# Altium schematic symbol library BJT.SchLib: 3 symbols
Pins are listed as number, name and electrical type; pins without a type are passive.

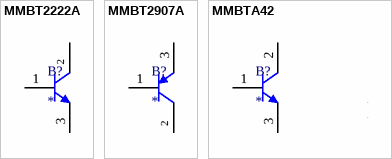
[diagram p0: symbols MMBT2222A to MMBTA42]

## MMBT2222A
designator B?
TRANS NPN, 40V, 600MA, SOT23-3; DC Current Gain: 35-300; Gain Bandwidth Product fT: 250MHz; Power Dissipation: 250mW; Supply 1 Name: Digikey; Supply 1 SN: 2796-MMBT2222ATR-ND; Supply 2 Name: Mouser; Supply 2 SN: 637-MMBT2222A; Supply 3 Name: thegioiic; Current - Collector: 600mA; Package: SOT-23; Supply 1 URL: https://www.digikey.com/en/products/detail/diotec-semiconductor/MMBT2222A/13163394; Supply 2 URL: https://www.mouser.vn/ProductDetail/Diotec-Semiconductor/MMBT2222A?qs=OlC7AqGiEDl9N1c3%252BL%2F%252Brw%3D%3D; Supply 3 URL: https://www.thegioiic.com/mmbt2222a-transistor-npn-40v-0-6a-3-chan-sot-23; Transistor Type: NPN; Voltage - Collector Emitter Breakdown: 40V; Supply 3 SN: *
footprint SOT23
pins: 1 B, 2 C, 3 E

## MMBT2907A
designator B?
TRANS PNP 60V 0.6A SOT23-3; Current - Collector: 600mA; DC Current Gain: 50-300; Gain Bandwidth Product fT: 200MHz; Power Dissipation: 250mW; Supply 1 Name: Digikey; Supply 1 SN: 2721-MMBT2907A-ND; Supply 2 Name: Mouser; Supply 2 SN: 637-MMBT2907A; Supply 3 Name: thegioiic; Voltage - Collector Emitter Breakdown: 60V; Package: SOT-23; Supply 1 URL: https://www.digikey.com/en/products/detail/dcomponents/MMBT2907A/13574996; Supply 2 URL: https://www.mouser.vn/ProductDetail/Diotec-Semiconductor/MMBT2907A?qs=OlC7AqGiEDk%2F%2FX9t05LXdg%3D%3D; Transistor Type: PNP; Supply 3 SN: *; Supply 3 URL: https://www.thegioiic.com/mmbt2907a-transistor-pnp-60v-0-6a-3-chan-sot-23
footprint SOT23
pins: 1 B, 2 C, 3 E

## MMBTA42
designator B?
TRANS NPN, 300V, 0.5A, SOT23-3; Current - Collector: 500mA; DC Current Gain: 80-200; Power Dissipation: 250mW; Gain Bandwidth Product fT: 50MHz; Supply 1 Name: Digikey; Supply 1 SN: 2796-MMBTA42TR-ND; Supply 2 Name: Mouser; Supply 2 SN: 637-MMBTA42; Supply 3 Name: thegioiic; Voltage - Collector Emitter Breakdown: 300V; Transistor Type: NPN; Package: SOT-23; Supply 1 URL: https://www.digikey.com/en/products/detail/diotec-semiconductor/MMBTA42/13163233; Supply 2 URL: https://www.mouser.vn/ProductDetail/Diotec-Semiconductor/MMBTA42?qs=OlC7AqGiEDkTSphcOD18pw%3D%3D; Supply 3 SN: *; Supply 3 URL: https://www.thegioiic.com/mmbta42-transistor-npn-300v-0-5a-3-chan-sot-23
footprint SOT23
pins: 1 B, 2 C, 3 E